# Altium schematic symbol library KingBright 1-Digit 7-Segment Through-Hole LED Display.SchLib: 1 symbol
Pins are listed as number, name and electrical type; pins without a type are passive.

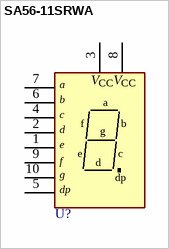
[diagram p0: symbol SA56-11SRWA]

## SA56-11SRWA
designator U?
Character LED Display Module Red 7-Segment 1 Character Common Anode 1.85V 20mA 0.750" H x 0.500" W x 0.315" D (19.05mm x 12.70mm x 8.00mm) 10-DIP (0.600", 15.24mm); Manufacturer: KingBright; PartNumber: SA56-11SRWA; Package: 10-DIP_15.24mm; PackageDescription: DIP 10-Pin, Body 19.05 x 12.70mm, Pitch(V) 15.24mm, Pitch(H) 2.54mm; Supplier 1: Digi-Key; Supplier Part Number 1: 754-1460-5-ND
footprint 10-DIP_15.24mm (DIP 10-Pin, Body 19.05 x 12.70mm, Pitch(V) 15.24mm, Pitch(H) 2.54mm)
3D model SA-SC56-11 (PCB3D Model)
pins: 1 e, 2 d, 3 VCC, 4 c, 5 dp, 6 b, 7 a, 8 VCC, 9 f, 10 g
text: V; CC